# Altium schematic symbol library PCF8574.SchLib: 1 symbol
Pins are listed as number, name and electrical type; pins without a type are passive.

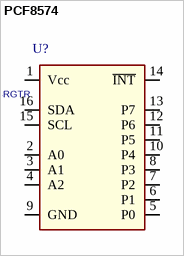
[diagram p0: symbol PCF8574]

## PCF8574
designator U?, comment PCF8574RGTR
PDF: http://www.ti.com/lit/ds/symlink/pcf8574.pdf; BUY_LINK: http://www.digikey.com/product-detail/en/PCF8574RGTR/296-21238-6-ND/1220024; PRICE: 1.91000; ID: PCF8574RGTR
footprint VQFN-16
pins: 1 Vcc, 2 A0, 3 A1, 4 A2, 5 P0, 6 P1, 7 P2, 8 P3, 9 GND, 10 P4, 11 P5, 12 P6, 13 P7, 14 ~{INT}, 15 SCL, 16 SDA